# EAGLE library part AYZ0202 (library KwanSystems)
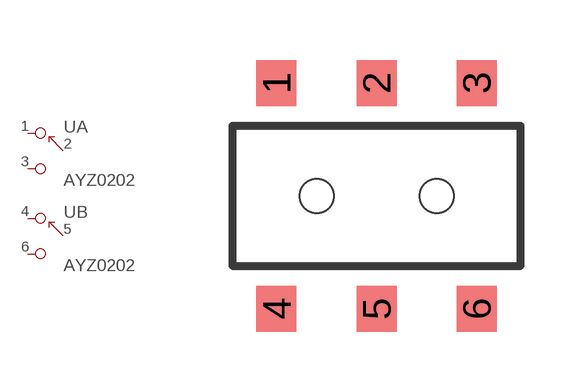
[diagram p28: symbol with the pads of AYZ0202; footprint AYZ0202]

Designator prefix -; gates A=SPDT B=SPDT

## AYZ0202  [AYZ0202]
1  A:P$1
2  A:P$3
3  A:P$2
4  B:P$1
5  B:P$3
6  B:P$2

## Footprint AYZ0202 (pad centres in mm)
smd 1 x 1.15: 1 -2.5,2.825; 2 0,2.825; 3 2.5,2.825; 4 -2.5,-2.825; 5 0,-2.825; 6 2.5,-2.825
hole 0.85 at 1.5,0
hole 0.85 at -1.5,0